# Altium footprint library PcbLib1.PcbLib: 1 footprints
Each footprint in its own frame and in the unit in brackets; x right, y up, seen from the top. Pads: shape width x height; smd on the part's side, far side on the other; paste and mask are expansions set on the pad; w line width, h text height; cw(c..) or ccw(c..) is an arc to the next point about the centre after c.
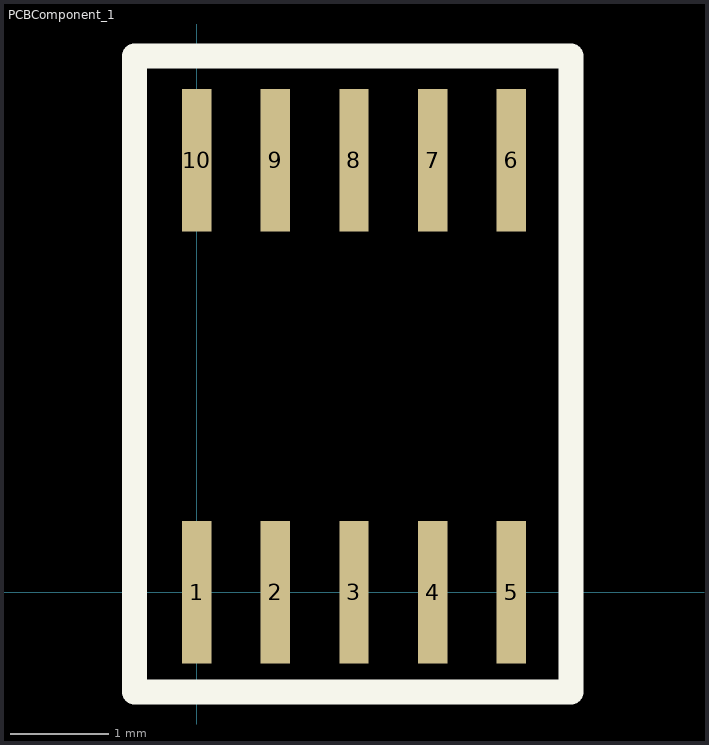
[diagram p0: the footprint, top view; thin cyan lines are the x and y axes]

## PCBComponent_1 [mm]
pads (10):
  rect 0.3x1.45 smd mask+0.05: 1(0,0) 2(0.8,0) 3(1.6,0) 4(2.4,0) 5(3.2,0) 6(3.2,4.4) 7(2.4,4.4) 8(1.6,4.4) 9(0.8,4.4) 10(0,4.4)
Top Overlay:
  lines w0.254: -0.635,-1.016 -0.635,0.381 -0.635,5.461 3.81,5.461 3.81,-1.016 -0.635,-1.016